# EAGLE library part MCP1640 (library umich)
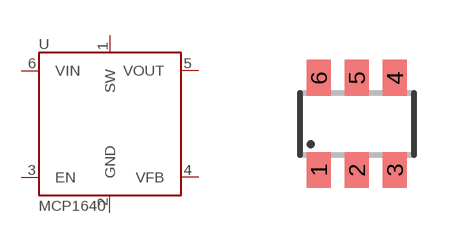
[diagram p12: symbol with the pads of SOT23-6; footprint SOT23-6]

Designator prefix U

## MCP1640  [SOT23-6]
1  SW
2  GND  pwr
3  EN  in
4  VFB  in
5  VOUT  out
6  VIN  in

## Footprint SOT23-6 (pad centres in mm)
smd 0.6 x 0.9: 1 -0.95,-1.15; 2 0,-1.15; 3 0.95,-1.15; 4 0.95,1.15; 5 0,1.15; 6 -0.95,1.15